# EAGLE library part LAN9512 (library kmod-testing)
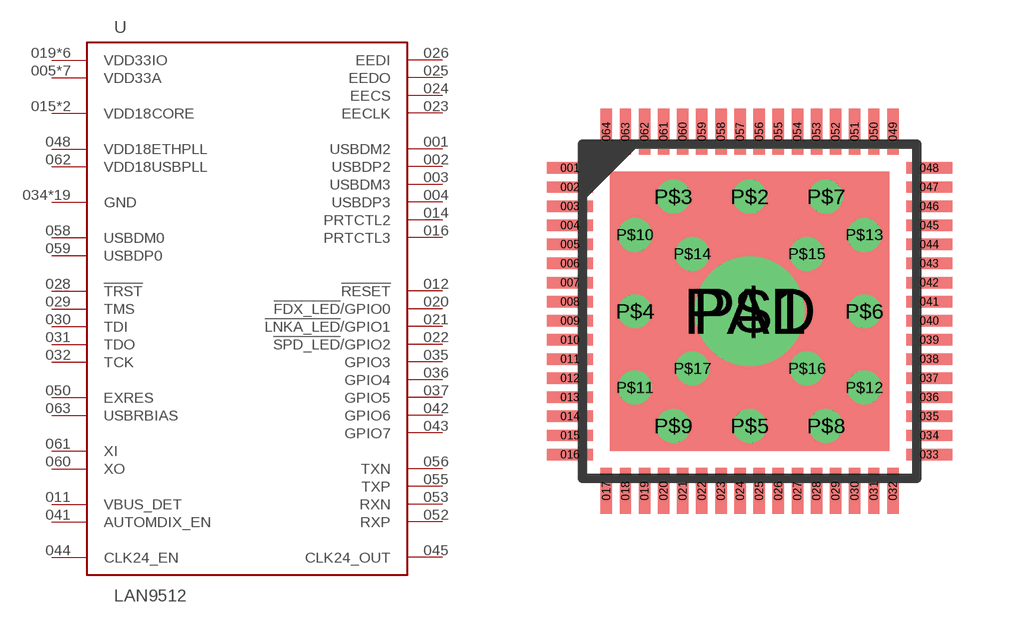
[diagram p11: symbol with the pads of QFN64; footprint QFN64]

Designator prefix -

## LAN9512  [QFN64]
001  USBDM2
002  USBDP2
003  USBDM3
004  USBDP3
005  VDD33A  in
010  VDD33A  in
011  VBUS_DET  in
012  !RESET
014  PRTCTL2
015  VDD18CORE
016  PRTCTL3
019  VDD33IO  in
020  !FDX_LED!/GPIO0
021  !LNKA_LED!/GPIO1
022  !SPD_LED!/GPIO2
023  EECLK  out
024  EECS  out
025  EEDO  out
026  EEDI  in
027  VDD33IO  in
028  !TRST  in
029  TMS  in
030  TDI  in
031  TDO  out
032  TCK  in
033  VDD33IO  in
034  GND  in
035  GPIO3
036  GPIO4
037  GPIO5
038  VDD18CORE
039  VDD33IO  in
040  VDD33IO  in
041  AUTOMDIX_EN  in
042  GPIO6
043  GPIO7
044  CLK24_EN  in
045  CLK24_OUT  out
046  VDD33IO  in
048  VDD18ETHPLL  in
049  VDD33A  in
050  EXRES  in
051  VDD33A  in
052  RXP
053  RXN
054  VDD33A  in
055  TXP
056  TXN
057  VDD33A  in
058  USBDM0  in
059  USBDP0  in
060  XO
061  XI  in
062  VDD18USBPLL
063  USBRBIAS  in
064  VDD33A  in
P$1  GND  in
P$2  GND  in
P$3  GND  in
P$4  GND  in
P$5  GND  in
P$6  GND  in
P$7  GND  in
P$8  GND  in
P$9  GND  in
P$10  GND  in
P$11  GND  in
P$12  GND  in
P$13  GND  in
P$14  GND  in
P$15  GND  in
P$16  GND  in
P$17  GND  in
PAD  GND  in

## Footprint QFN64 (pad centres in mm)
64-pin, 0.5mm-pitch QFN/QFP Generated with gen_qfp.py with the following parameters: PAD_LENGTH = 1.2 PAD_PAST_END = 0.8 LEAD_INNER_WIDTH = 8.2 LEAD_OUTER_WIDTH = 9 LEAD_WIDTH = 0.25
smd 1.2 x 0.3: 001 -4.7,3.75; 002 -4.7,3.25; 003 -4.7,2.75; 004 -4.7,2.25; 005 -4.7,1.75; 006 -4.7,1.25; 007 -4.7,0.75; 008 -4.7,0.25; 009 -4.7,-0.25; 010 -4.7,-0.75; 011 -4.7,-1.25; 012 -4.7,-1.75; 013 -4.7,-2.25; 014 -4.7,-2.75; 015 -4.7,-3.25; 016 -4.7,-3.75; 033 4.7,-3.75; 034 4.7,-3.25; 035 4.7,-2.75; 036 4.7,-2.25; 037 4.7,-1.75; 038 4.7,-1.25; 039 4.7,-0.75; 040 4.7,-0.25; 041 4.7,0.25; 042 4.7,0.75; 043 4.7,1.25; 044 4.7,1.75; 045 4.7,2.25; 046 4.7,2.75; 047 4.7,3.25; 048 4.7,3.75
smd 0.3 x 1.2: 017 -3.75,-4.7; 018 -3.25,-4.7; 019 -2.75,-4.7; 020 -2.25,-4.7; 021 -1.75,-4.7; 022 -1.25,-4.7; 023 -0.75,-4.7; 024 -0.25,-4.7; 025 0.25,-4.7; 026 0.75,-4.7; 027 1.25,-4.7; 028 1.75,-4.7; 029 2.25,-4.7; 030 2.75,-4.7; 031 3.25,-4.7; 032 3.75,-4.7; 049 3.75,4.7; 050 3.25,4.7; 051 2.75,4.7; 052 2.25,4.7; 053 1.75,4.7; 054 1.25,4.7; 055 0.75,4.7; 056 0.25,4.7; 057 -0.25,4.7; 058 -0.75,4.7; 059 -1.25,4.7; 060 -1.75,4.7; 061 -2.25,4.7; 062 -2.75,4.7; 063 -3.25,4.7; 064 -3.75,4.7
drill 1.905: P$1 0,0
drill 0.381: P$2 0,3; P$3 -2,3; P$4 -3,0; P$5 0,-3; P$6 3,0; P$7 2,3; P$8 2,-3; P$9 -2,-3; P$10 -3,2; P$11 -3,-2; P$12 3,-2; P$13 3,2; P$14 -1.5,1.5; P$15 1.5,1.5; P$16 1.5,-1.5; P$17 -1.5,-1.5
smd 7.3 x 7.3: PAD 0,0